# Altium schematic symbol library YL-LPC4350-CORE-V1.0 _Library.SchLib: 156 symbols (part 10 of 10)

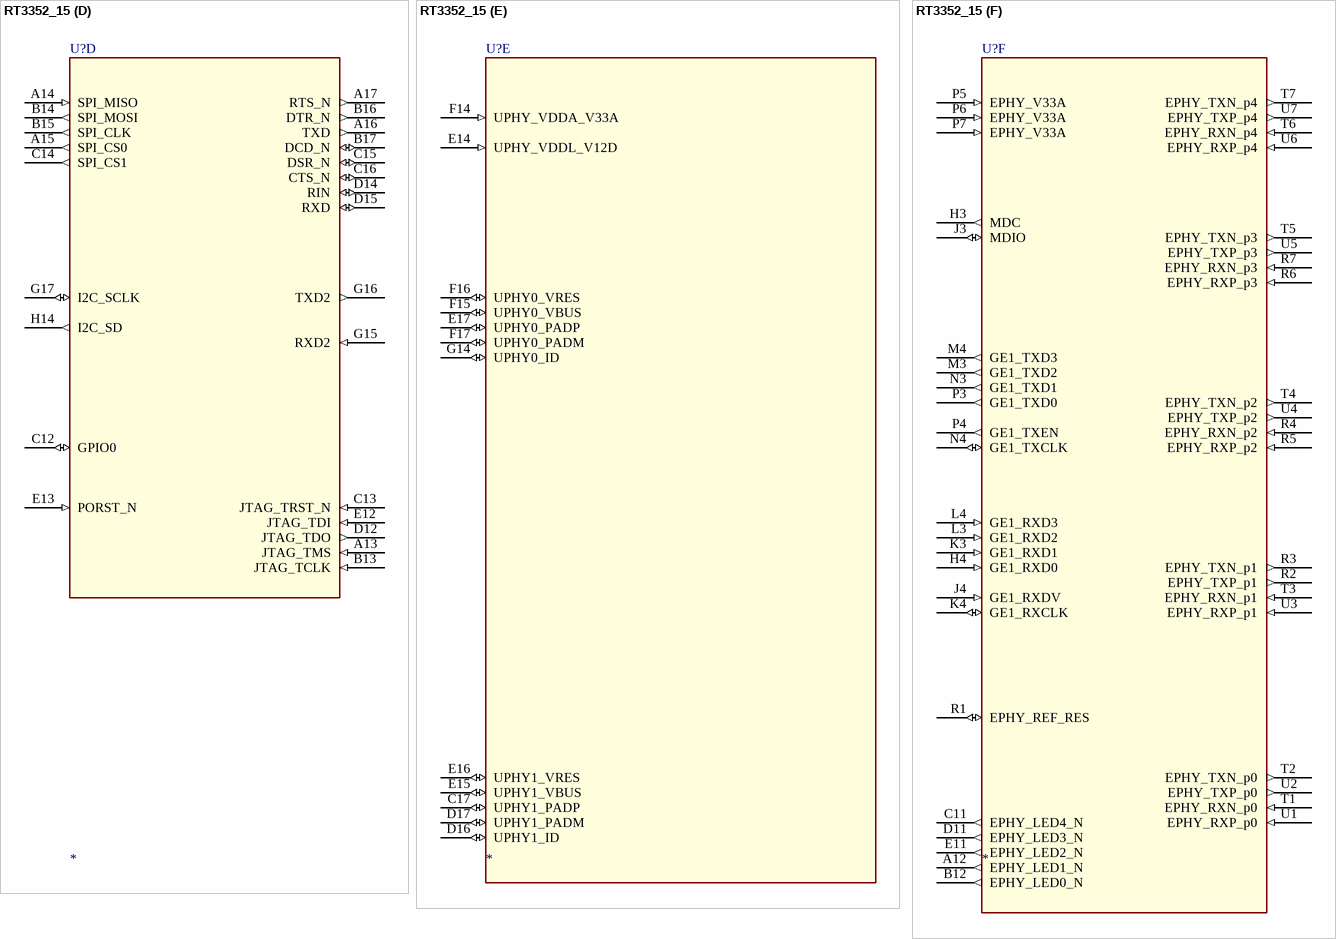
[diagram p140: symbol RT3352_15]

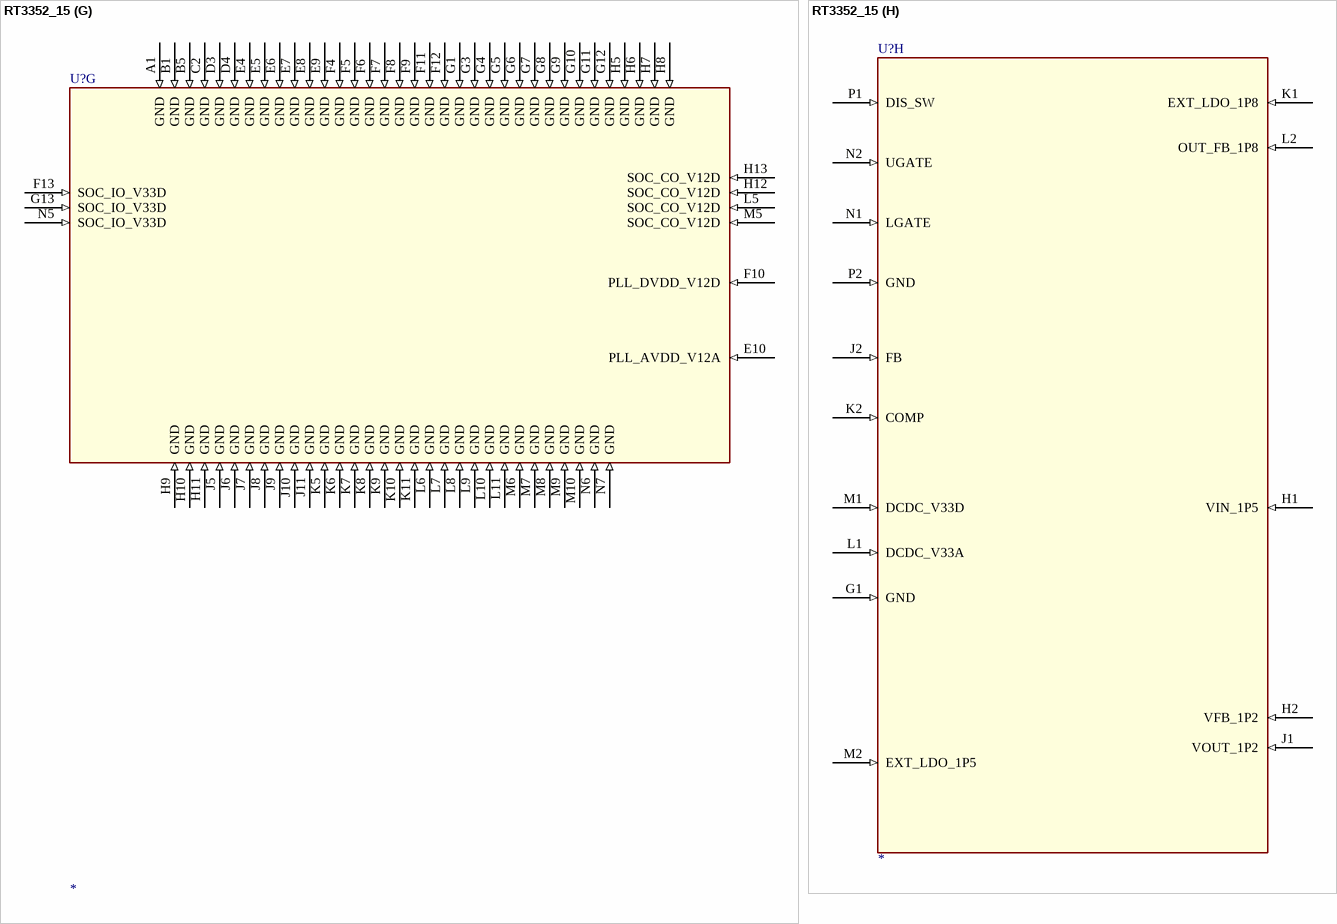
[diagram p141: symbol RT3352_15]

## RT3352_15
designator U?
part A pins: A6 PLL_VC_CAP (in), A7 LDORF_OUT_V12 (out), A8 RF_BB2_V12A (in), A9 ADC_V12 (in), B6 BG_V33A (in), B7 LDORF_IN_VX (in), B8 PLL_X2 (out), B9 PLL_X1 (in), C3 RF0_V12A (in), C4 RF0_IF_V12A (in), C5 VCO_V12A (in), C6 LDOPLL_OUT_V12 (out), C7 BG_RES_12K (in), D5 PLL_V12A (in), D6 RF_BB1_V12A (in), E3 RF1_IF_V12A (in), F3 RF1_V12A (in), G2 RF1_TX_V12A (in)
part B pins: A2 RF0_PA_OUTN (out), A3 RF0_PA_OUTP (out), A4 RF0_2G_INN (in), A5 RF0_2G_INP (in), A10 LNA_PE_G1 (out), A11 ANT_TRNB (out), B2 RF0_PA_V33N (in), B3 RF0_PA_V33P (in), B4 RF0_PA1_V33A (in), B10 LNA_PE_G0 (out), B11 ANT_TRN (out), C1 RF1_2G_INP (in), C8 BASE_TRX_IP (io), C9 BASE_TRX_IN (io), C10 PA_PE_G1 (out), D1 RF1_2G_INN (in), D2 RF1_PA_V33A (in), D7 RF_TSSI_IN (in), D8 BASE_TRX_QP (io), D9 BASE_TRX_QN (io), D10 PA_PE_G0 (out), D13 WLAN_LED_N (out), E1 RF1_PA_OUTP (out), E2 RF1_PA_V33P (in), F1 RF1_PA_OUTN (out), F2 RF1_PA_V33N (in)
part C pins: H15 MD0 (io), H16 MD1 (io), H17 MD2 (io), J12 DDR_IOC_V12D (in), J13 DDR_IOC_V12D (in), J14 MD3 (io), J15 MDQM0 (io), J16 MDQS0 (io), J17 MD6 (io), K12 DDR_IO_V33D (in), K13 DDR_IO_V33D (in), K14 MD8 (io), K15 MD7 (io), K16 MD5 (io), K17 MD4 (io), L12 DDR_IOL_V33D (in), L13 DDR_IOL_V33D (in), L14 MD13 (io), L15 MD10 (io), L16 MD11 (io), L17 MD9 (io), M11 DDR_IO_V33D (in), M12 DDR_IOR_V09D (in), M13 MD15 (io), M14 MD12 (io), M15 MD14 (io), M16 MDQS1 (io), M17 MDQM1 (io), N8 DDR_IO_V33D (in), N9 DDR_IO_V33D (in), N10 DDR_IO_V33D (in), N11 DDR_IO_V33D (in), N12 DDR_IOR_V09D (in), N13 MA0 (io), N14 MA3 (io), N15 MA8 (io), N16 MA10 (io), N17 MA13 (io), P8 MD31 (io), P9 MDQS3 (io), P10 MD22 (io), P11 MDQM2 (io), P12 MD16 (io), P13 MODT (io), P14 MA6 (io), P15 MA4 (io), P16 MA5 (io), P17 MA12 (io), R8 MD30 (io), R9 MD27 (io), R10 MD23 (io), R11 MDQS2 (io), R12 MD17 (io), R13 MCKE (io), R14 MCAS_N (io), R15 MA2 (io), R16 MA7 (io), R17 MA11 (io), T8 MD29 (io), T9 MDQM3 (io), T10 MD24 (io), T11 MD20 (io), T12 MD18 (io), T13 MCK_N (io), T14 MRAS_N (io), T15 MBA0 (io), T16 MA1 (io), T17 MA9 (io), U8 MD28 (io), U9 MD25 (io), U10 MD26 (io), U11 MD21 (io), U12 MD19 (io), U13 MCK_P (io), U14 MWE_N (io), U15 MBA1 (io), U16 MBA2 (io), U17 MCS_N (io)
part D pins: A13 JTAG_TMS (in), A14 SPI_MISO (in), A15 SPI_CS0 (out), A16 TXD (out), A17 RTS_N (out), B13 JTAG_TCLK (in), B14 SPI_MOSI (out), B15 SPI_CLK (out), B16 DTR_N (out), B17 DCD_N (io), C12 GPIO0 (io), C13 JTAG_TRST_N (in), C14 SPI_CS1 (out), C15 DSR_N (io), C16 CTS_N (io), D12 JTAG_TDO (out), D14 RIN (io), D15 RXD (io), E12 JTAG_TDI (in), E13 PORST_N (in), G15 RXD2 (in), G16 TXD2 (out), G17 I2C_SCLK (io), H14 I2C_SD (out)
part E pins: C17 UPHY1_PADP (io), D16 UPHY1_ID (io), D17 UPHY1_PADM (io), E14 UPHY_VDDL_V12D (in), E15 UPHY1_VBUS (io), E16 UPHY1_VRES (io), E17 UPHY0_PADP (io), F14 UPHY_VDDA_V33A (in), F15 UPHY0_VBUS (io), F16 UPHY0_VRES (io), F17 UPHY0_PADM (io), G14 UPHY0_ID (io)
part F pins: A12 EPHY_LED1_N (out), B12 EPHY_LED0_N (out), C11 EPHY_LED4_N (out), D11 EPHY_LED3_N (out), E11 EPHY_LED2_N (out), H3 MDC (out), H4 GE1_RXD0 (in), J3 MDIO (io), J4 GE1_RXDV (in), K3 GE1_RXD1 (in), K4 GE1_RXCLK (io), L3 GE1_RXD2 (in), L4 GE1_RXD3 (in), M3 GE1_TXD2 (out), M4 GE1_TXD3 (out), N3 GE1_TXD1 (out), N4 GE1_TXCLK (io), P3 GE1_TXD0 (out), P4 GE1_TXEN (out), P5 EPHY_V33A (in), P6 EPHY_V33A (in), P7 EPHY_V33A (in), R1 EPHY_REF_RES (io), R2 EPHY_TXP_p1 (out), R3 EPHY_TXN_p1 (out), R4 EPHY_RXN_p2 (in), R5 EPHY_RXP_p2 (in), R6 EPHY_RXP_p3 (in), R7 EPHY_RXN_p3 (in), T1 EPHY_RXN_p0 (in), T2 EPHY_TXN_p0 (out), T3 EPHY_RXN_p1 (in), T4 EPHY_TXN_p2 (out), T5 EPHY_TXN_p3 (out), T6 EPHY_RXN_p4 (in), T7 EPHY_TXN_p4 (out), U1 EPHY_RXP_p0 (in), U2 EPHY_TXP_p0 (out), U3 EPHY_RXP_p1 (in), U4 EPHY_TXP_p2 (out), U5 EPHY_TXP_p3 (out), U6 EPHY_RXP_p4 (in), U7 EPHY_TXP_p4 (out)
part G pins: A1 GND (in), B1 GND (in), B5 GND (in), C2 GND (in), D3 GND (in), D4 GND (in), E4 GND (in), E5 GND (in), E6 GND (in), E7 GND (in), E8 GND (in), E9 GND (in), E10 PLL_AVDD_V12A (in), F4 GND (in), F5 GND (in), F6 GND (in), F7 GND (in), F8 GND (in), F9 GND (in), F10 PLL_DVDD_V12D (in), F11 GND (in), F12 GND (in), F13 SOC_IO_V33D (in), G1 GND (in), G3 GND (in), G4 GND (in), G5 GND (in), G6 GND (in), G7 GND (in), G8 GND (in), G9 GND (in), G10 GND (in), G11 GND (in), G12 GND (in), G13 SOC_IO_V33D (in), H5 GND (in), H6 GND (in), H7 GND (in), H8 GND (in), H9 GND (in), H10 GND (in), H11 GND (in), H12 SOC_CO_V12D (in), H13 SOC_CO_V12D (in), J5 GND (in), J6 GND (in), J7 GND (in), J8 GND (in), J9 GND (in), J10 GND (in), J11 GND (in), K5 GND (in), K6 GND (in), K7 GND (in), K8 GND (in), K9 GND (in), K10 GND (in), K11 GND (in), L5 SOC_CO_V12D (in), L6 GND (in), L7 GND (in), L8 GND (in), L9 GND (in), L10 GND (in), L11 GND (in), M5 SOC_CO_V12D (in), M6 GND (in), M7 GND (in), M8 GND (in), M9 GND (in), M10 GND (in), N5 SOC_IO_V33D (in), N6 GND (in), N7 GND (in)
part H pins: G1 GND (in), H1 VIN_1P5 (in), H2 VFB_1P2 (in), J1 VOUT_1P2 (in), J2 FB (in), K1 EXT_LDO_1P8 (in), K2 COMP (in), L1 DCDC_V33A (in), L2 OUT_FB_1P8 (in), M1 DCDC_V33D (in), M2 EXT_LDO_1P5 (in), N1 LGATE (in), N2 UGATE (in), P1 DIS_SW (in), P2 GND (in)

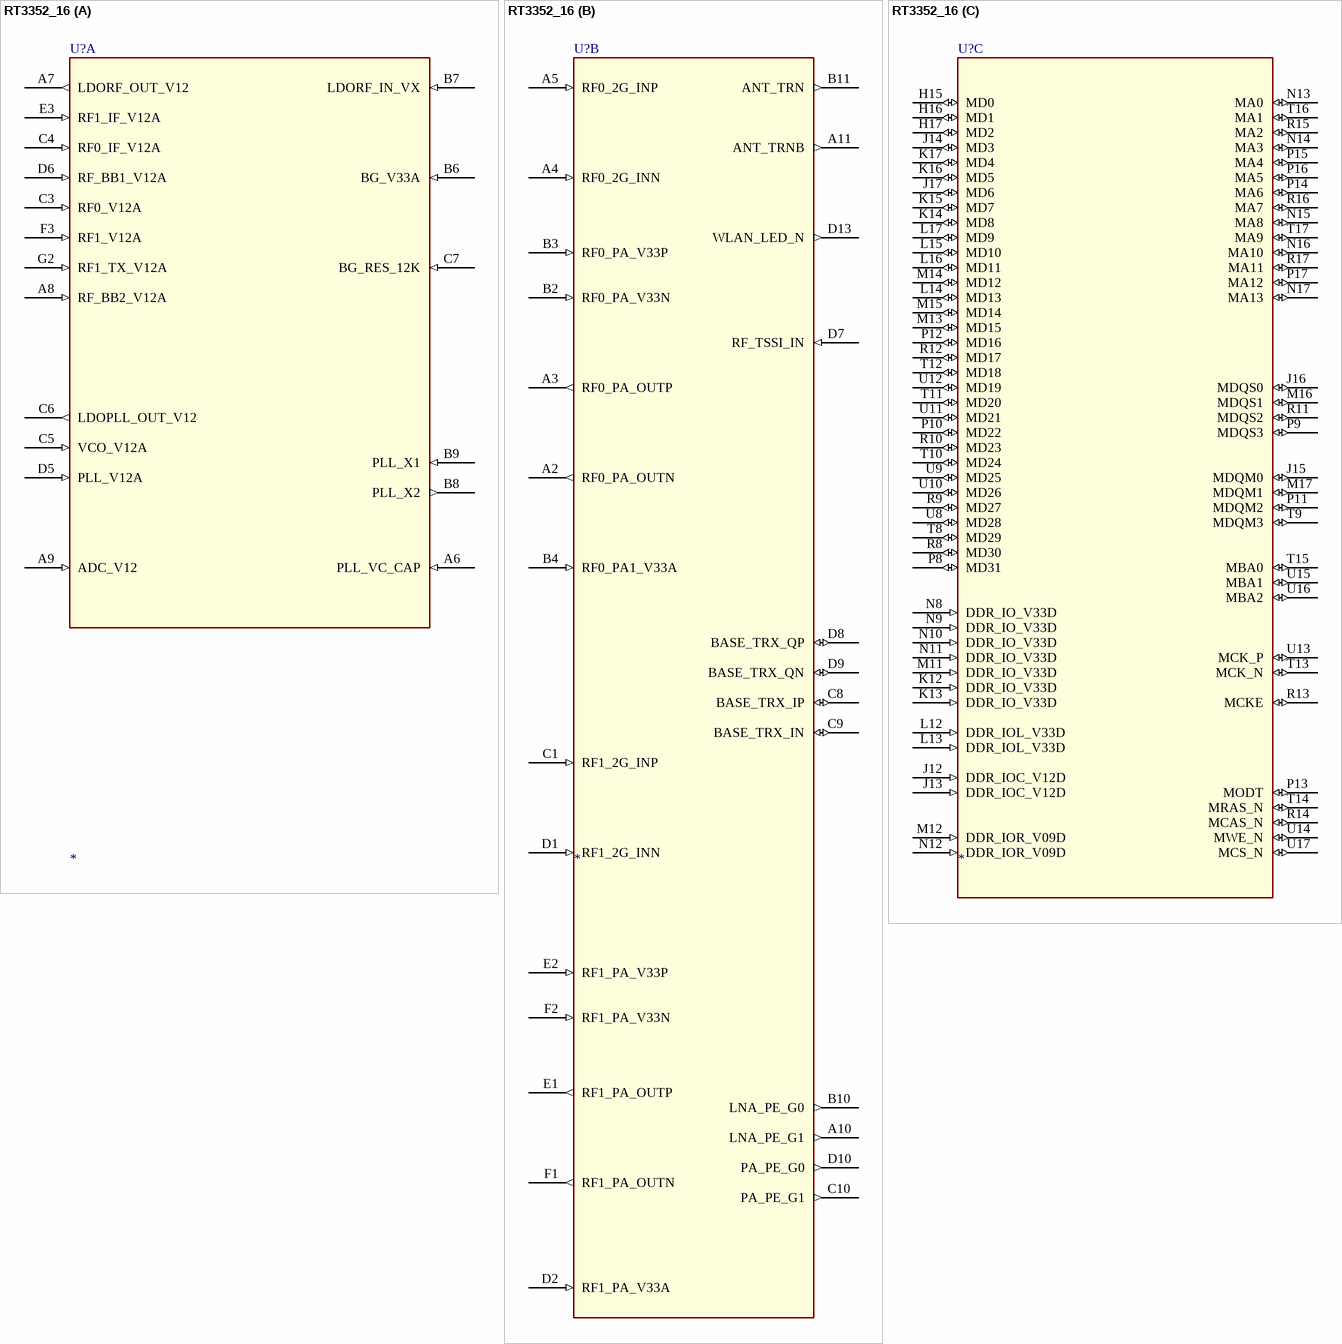
[diagram p142: symbol RT3352_16]

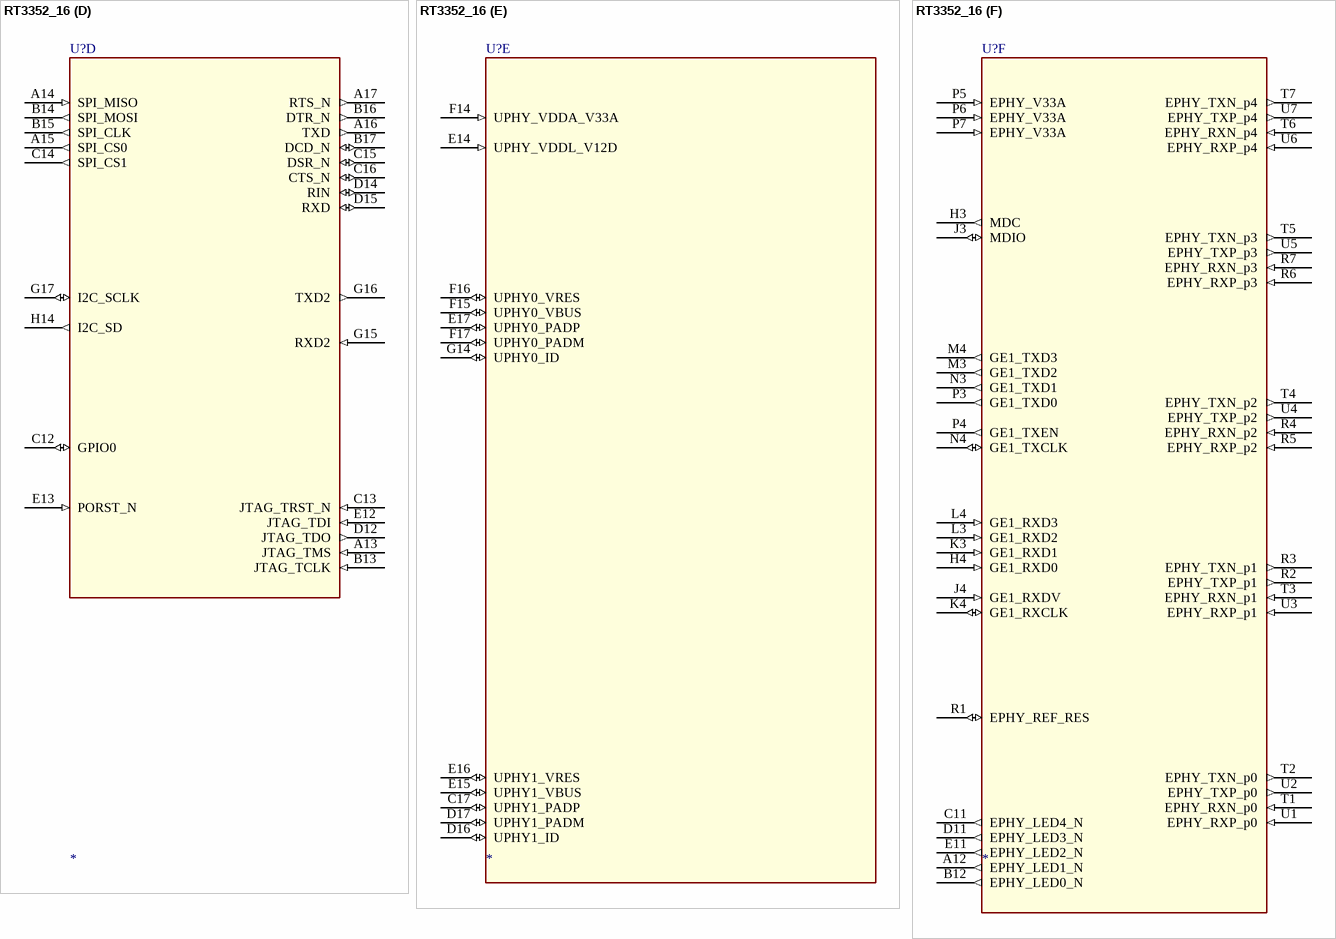
[diagram p143: symbol RT3352_16]

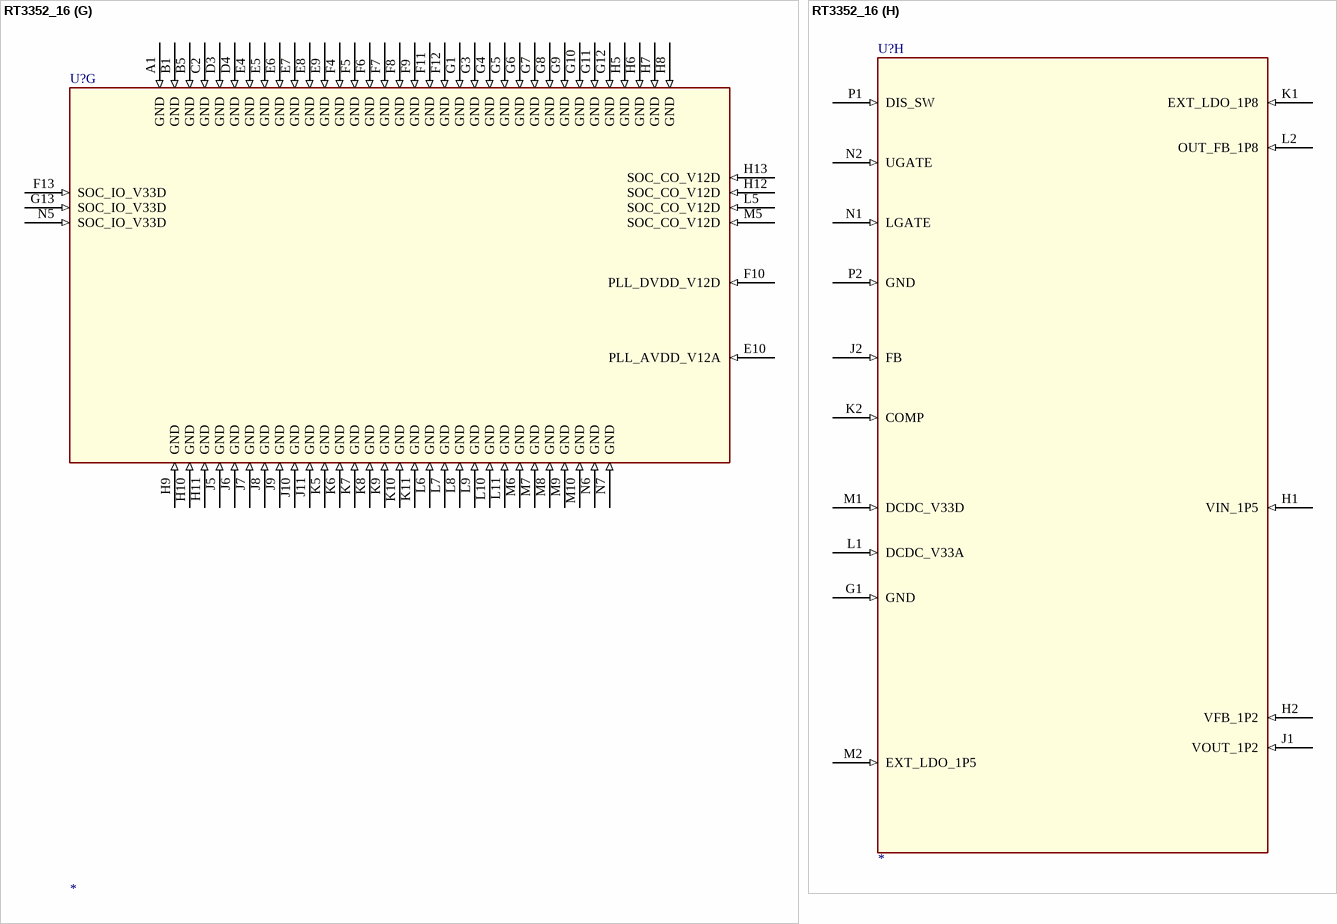
[diagram p144: symbol RT3352_16]

## RT3352_16
designator U?
part A pins: A6 PLL_VC_CAP (in), A7 LDORF_OUT_V12 (out), A8 RF_BB2_V12A (in), A9 ADC_V12 (in), B6 BG_V33A (in), B7 LDORF_IN_VX (in), B8 PLL_X2 (out), B9 PLL_X1 (in), C3 RF0_V12A (in), C4 RF0_IF_V12A (in), C5 VCO_V12A (in), C6 LDOPLL_OUT_V12 (out), C7 BG_RES_12K (in), D5 PLL_V12A (in), D6 RF_BB1_V12A (in), E3 RF1_IF_V12A (in), F3 RF1_V12A (in), G2 RF1_TX_V12A (in)
part B pins: A2 RF0_PA_OUTN (out), A3 RF0_PA_OUTP (out), A4 RF0_2G_INN (in), A5 RF0_2G_INP (in), A10 LNA_PE_G1 (out), A11 ANT_TRNB (out), B2 RF0_PA_V33N (in), B3 RF0_PA_V33P (in), B4 RF0_PA1_V33A (in), B10 LNA_PE_G0 (out), B11 ANT_TRN (out), C1 RF1_2G_INP (in), C8 BASE_TRX_IP (io), C9 BASE_TRX_IN (io), C10 PA_PE_G1 (out), D1 RF1_2G_INN (in), D2 RF1_PA_V33A (in), D7 RF_TSSI_IN (in), D8 BASE_TRX_QP (io), D9 BASE_TRX_QN (io), D10 PA_PE_G0 (out), D13 WLAN_LED_N (out), E1 RF1_PA_OUTP (out), E2 RF1_PA_V33P (in), F1 RF1_PA_OUTN (out), F2 RF1_PA_V33N (in)
part C pins: H15 MD0 (io), H16 MD1 (io), H17 MD2 (io), J12 DDR_IOC_V12D (in), J13 DDR_IOC_V12D (in), J14 MD3 (io), J15 MDQM0 (io), J16 MDQS0 (io), J17 MD6 (io), K12 DDR_IO_V33D (in), K13 DDR_IO_V33D (in), K14 MD8 (io), K15 MD7 (io), K16 MD5 (io), K17 MD4 (io), L12 DDR_IOL_V33D (in), L13 DDR_IOL_V33D (in), L14 MD13 (io), L15 MD10 (io), L16 MD11 (io), L17 MD9 (io), M11 DDR_IO_V33D (in), M12 DDR_IOR_V09D (in), M13 MD15 (io), M14 MD12 (io), M15 MD14 (io), M16 MDQS1 (io), M17 MDQM1 (io), N8 DDR_IO_V33D (in), N9 DDR_IO_V33D (in), N10 DDR_IO_V33D (in), N11 DDR_IO_V33D (in), N12 DDR_IOR_V09D (in), N13 MA0 (io), N14 MA3 (io), N15 MA8 (io), N16 MA10 (io), N17 MA13 (io), P8 MD31 (io), P9 MDQS3 (io), P10 MD22 (io), P11 MDQM2 (io), P12 MD16 (io), P13 MODT (io), P14 MA6 (io), P15 MA4 (io), P16 MA5 (io), P17 MA12 (io), R8 MD30 (io), R9 MD27 (io), R10 MD23 (io), R11 MDQS2 (io), R12 MD17 (io), R13 MCKE (io), R14 MCAS_N (io), R15 MA2 (io), R16 MA7 (io), R17 MA11 (io), T8 MD29 (io), T9 MDQM3 (io), T10 MD24 (io), T11 MD20 (io), T12 MD18 (io), T13 MCK_N (io), T14 MRAS_N (io), T15 MBA0 (io), T16 MA1 (io), T17 MA9 (io), U8 MD28 (io), U9 MD25 (io), U10 MD26 (io), U11 MD21 (io), U12 MD19 (io), U13 MCK_P (io), U14 MWE_N (io), U15 MBA1 (io), U16 MBA2 (io), U17 MCS_N (io)
part D pins: A13 JTAG_TMS (in), A14 SPI_MISO (in), A15 SPI_CS0 (out), A16 TXD (out), A17 RTS_N (out), B13 JTAG_TCLK (in), B14 SPI_MOSI (out), B15 SPI_CLK (out), B16 DTR_N (out), B17 DCD_N (io), C12 GPIO0 (io), C13 JTAG_TRST_N (in), C14 SPI_CS1 (out), C15 DSR_N (io), C16 CTS_N (io), D12 JTAG_TDO (out), D14 RIN (io), D15 RXD (io), E12 JTAG_TDI (in), E13 PORST_N (in), G15 RXD2 (in), G16 TXD2 (out), G17 I2C_SCLK (io), H14 I2C_SD (out)
part E pins: C17 UPHY1_PADP (io), D16 UPHY1_ID (io), D17 UPHY1_PADM (io), E14 UPHY_VDDL_V12D (in), E15 UPHY1_VBUS (io), E16 UPHY1_VRES (io), E17 UPHY0_PADP (io), F14 UPHY_VDDA_V33A (in), F15 UPHY0_VBUS (io), F16 UPHY0_VRES (io), F17 UPHY0_PADM (io), G14 UPHY0_ID (io)
part F pins: A12 EPHY_LED1_N (out), B12 EPHY_LED0_N (out), C11 EPHY_LED4_N (out), D11 EPHY_LED3_N (out), E11 EPHY_LED2_N (out), H3 MDC (out), H4 GE1_RXD0 (in), J3 MDIO (io), J4 GE1_RXDV (in), K3 GE1_RXD1 (in), K4 GE1_RXCLK (io), L3 GE1_RXD2 (in), L4 GE1_RXD3 (in), M3 GE1_TXD2 (out), M4 GE1_TXD3 (out), N3 GE1_TXD1 (out), N4 GE1_TXCLK (io), P3 GE1_TXD0 (out), P4 GE1_TXEN (out), P5 EPHY_V33A (in), P6 EPHY_V33A (in), P7 EPHY_V33A (in), R1 EPHY_REF_RES (io), R2 EPHY_TXP_p1 (out), R3 EPHY_TXN_p1 (out), R4 EPHY_RXN_p2 (in), R5 EPHY_RXP_p2 (in), R6 EPHY_RXP_p3 (in), R7 EPHY_RXN_p3 (in), T1 EPHY_RXN_p0 (in), T2 EPHY_TXN_p0 (out), T3 EPHY_RXN_p1 (in), T4 EPHY_TXN_p2 (out), T5 EPHY_TXN_p3 (out), T6 EPHY_RXN_p4 (in), T7 EPHY_TXN_p4 (out), U1 EPHY_RXP_p0 (in), U2 EPHY_TXP_p0 (out), U3 EPHY_RXP_p1 (in), U4 EPHY_TXP_p2 (out), U5 EPHY_TXP_p3 (out), U6 EPHY_RXP_p4 (in), U7 EPHY_TXP_p4 (out)
part G pins: A1 GND (in), B1 GND (in), B5 GND (in), C2 GND (in), D3 GND (in), D4 GND (in), E4 GND (in), E5 GND (in), E6 GND (in), E7 GND (in), E8 GND (in), E9 GND (in), E10 PLL_AVDD_V12A (in), F4 GND (in), F5 GND (in), F6 GND (in), F7 GND (in), F8 GND (in), F9 GND (in), F10 PLL_DVDD_V12D (in), F11 GND (in), F12 GND (in), F13 SOC_IO_V33D (in), G1 GND (in), G3 GND (in), G4 GND (in), G5 GND (in), G6 GND (in), G7 GND (in), G8 GND (in), G9 GND (in), G10 GND (in), G11 GND (in), G12 GND (in), G13 SOC_IO_V33D (in), H5 GND (in), H6 GND (in), H7 GND (in), H8 GND (in), H9 GND (in), H10 GND (in), H11 GND (in), H12 SOC_CO_V12D (in), H13 SOC_CO_V12D (in), J5 GND (in), J6 GND (in), J7 GND (in), J8 GND (in), J9 GND (in), J10 GND (in), J11 GND (in), K5 GND (in), K6 GND (in), K7 GND (in), K8 GND (in), K9 GND (in), K10 GND (in), K11 GND (in), L5 SOC_CO_V12D (in), L6 GND (in), L7 GND (in), L8 GND (in), L9 GND (in), L10 GND (in), L11 GND (in), M5 SOC_CO_V12D (in), M6 GND (in), M7 GND (in), M8 GND (in), M9 GND (in), M10 GND (in), N5 SOC_IO_V33D (in), N6 GND (in), N7 GND (in)
part H pins: G1 GND (in), H1 VIN_1P5 (in), H2 VFB_1P2 (in), J1 VOUT_1P2 (in), J2 FB (in), K1 EXT_LDO_1P8 (in), K2 COMP (in), L1 DCDC_V33A (in), L2 OUT_FB_1P8 (in), M1 DCDC_V33D (in), M2 EXT_LDO_1P5 (in), N1 LGATE (in), N2 UGATE (in), P1 DIS_SW (in), P2 GND (in)

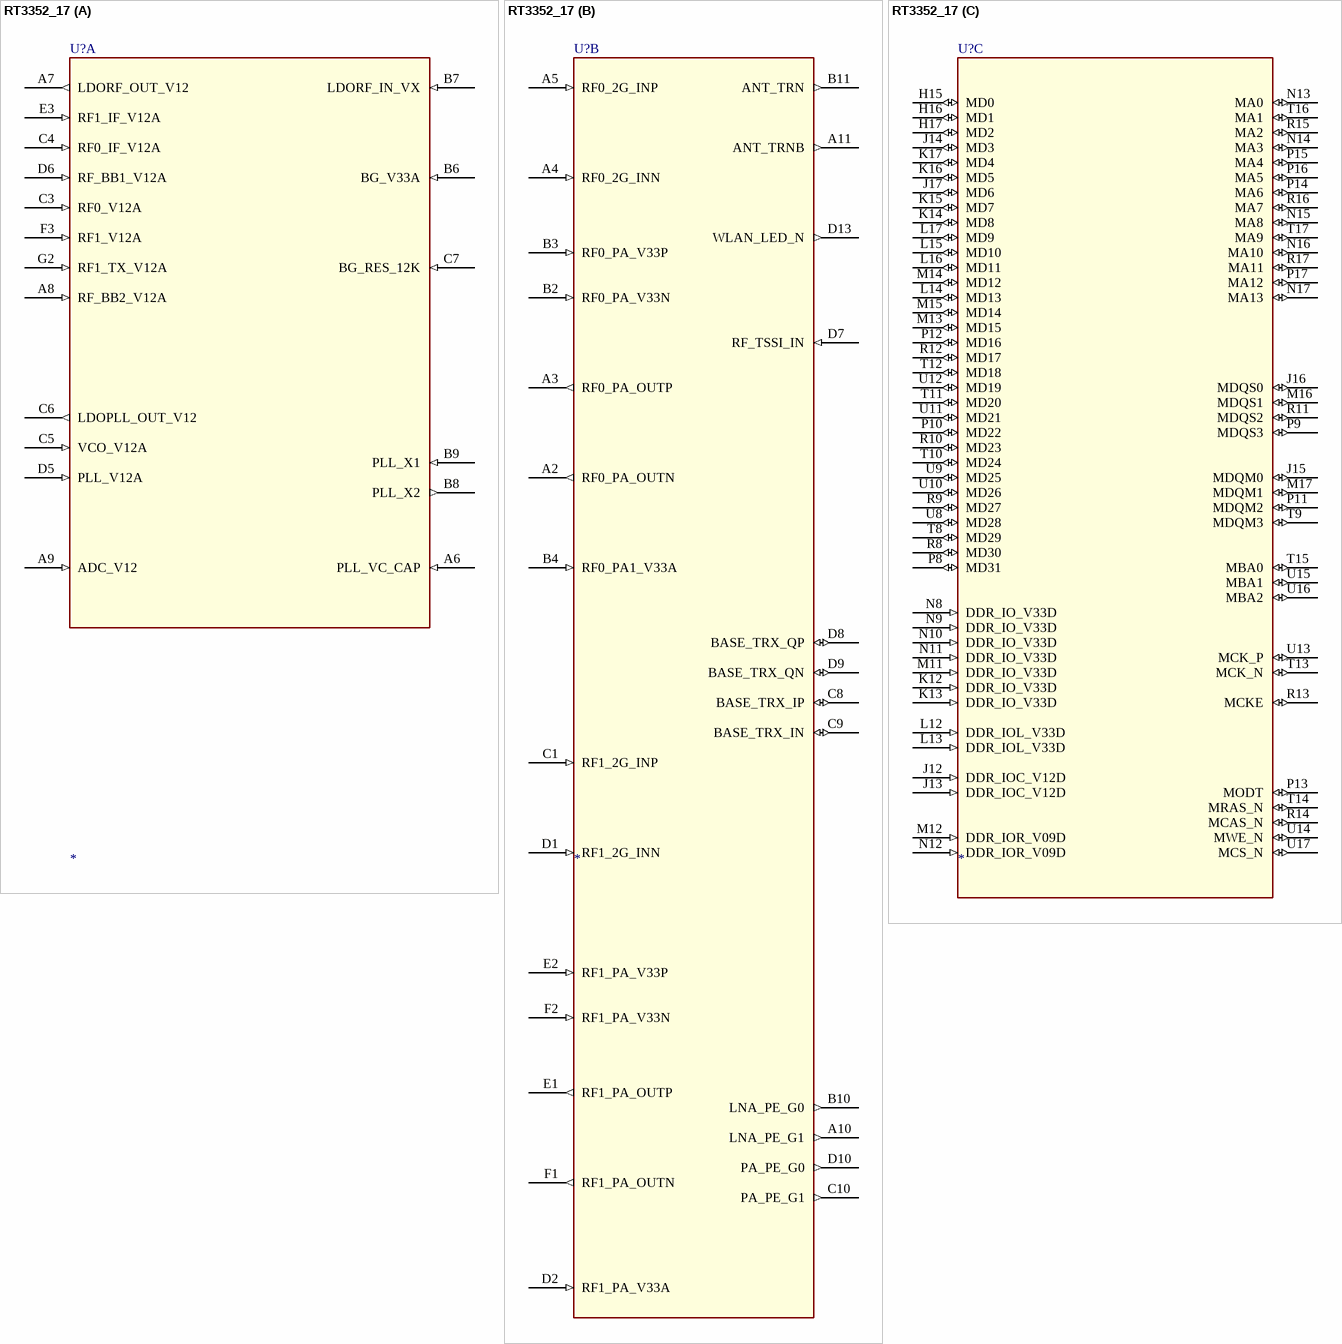
[diagram p145: symbol RT3352_17]

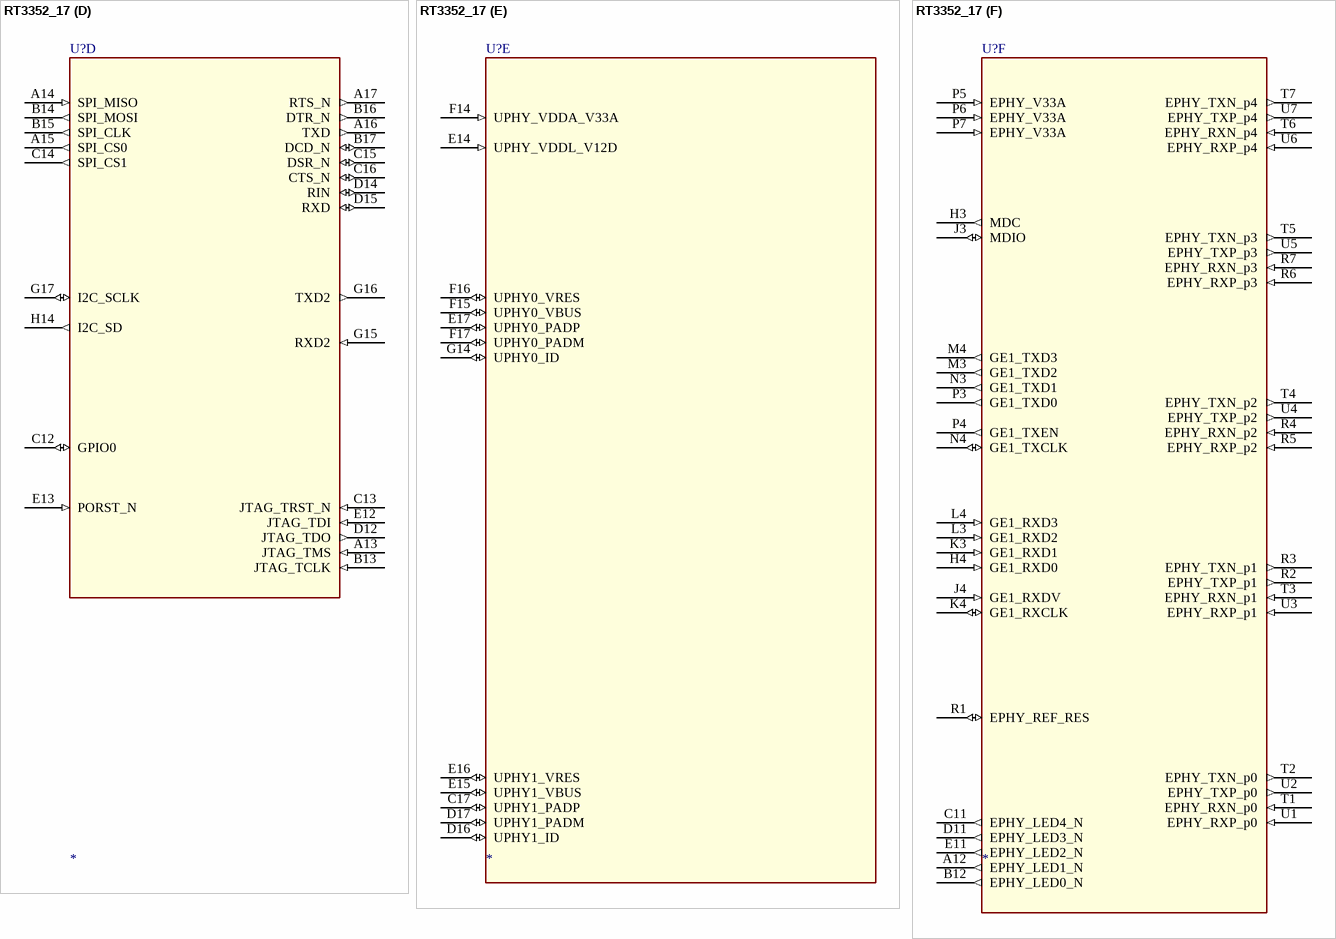
[diagram p146: symbol RT3352_17]

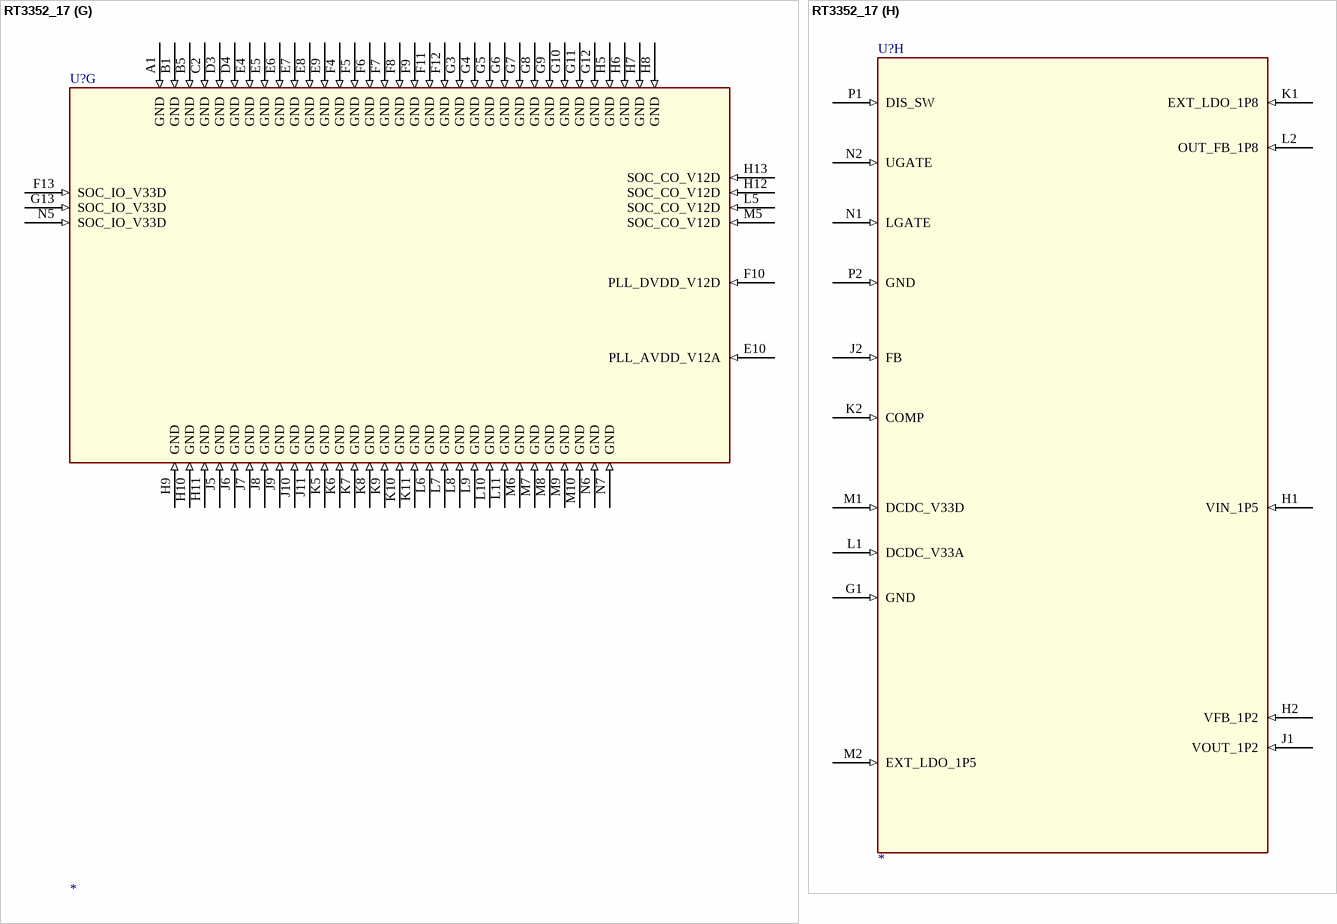
[diagram p147: symbol RT3352_17]

## RT3352_17
designator U?
part A pins: A6 PLL_VC_CAP (in), A7 LDORF_OUT_V12 (out), A8 RF_BB2_V12A (in), A9 ADC_V12 (in), B6 BG_V33A (in), B7 LDORF_IN_VX (in), B8 PLL_X2 (out), B9 PLL_X1 (in), C3 RF0_V12A (in), C4 RF0_IF_V12A (in), C5 VCO_V12A (in), C6 LDOPLL_OUT_V12 (out), C7 BG_RES_12K (in), D5 PLL_V12A (in), D6 RF_BB1_V12A (in), E3 RF1_IF_V12A (in), F3 RF1_V12A (in), G2 RF1_TX_V12A (in)
part B pins: A2 RF0_PA_OUTN (out), A3 RF0_PA_OUTP (out), A4 RF0_2G_INN (in), A5 RF0_2G_INP (in), A10 LNA_PE_G1 (out), A11 ANT_TRNB (out), B2 RF0_PA_V33N (in), B3 RF0_PA_V33P (in), B4 RF0_PA1_V33A (in), B10 LNA_PE_G0 (out), B11 ANT_TRN (out), C1 RF1_2G_INP (in), C8 BASE_TRX_IP (io), C9 BASE_TRX_IN (io), C10 PA_PE_G1 (out), D1 RF1_2G_INN (in), D2 RF1_PA_V33A (in), D7 RF_TSSI_IN (in), D8 BASE_TRX_QP (io), D9 BASE_TRX_QN (io), D10 PA_PE_G0 (out), D13 WLAN_LED_N (out), E1 RF1_PA_OUTP (out), E2 RF1_PA_V33P (in), F1 RF1_PA_OUTN (out), F2 RF1_PA_V33N (in)
part C pins: H15 MD0 (io), H16 MD1 (io), H17 MD2 (io), J12 DDR_IOC_V12D (in), J13 DDR_IOC_V12D (in), J14 MD3 (io), J15 MDQM0 (io), J16 MDQS0 (io), J17 MD6 (io), K12 DDR_IO_V33D (in), K13 DDR_IO_V33D (in), K14 MD8 (io), K15 MD7 (io), K16 MD5 (io), K17 MD4 (io), L12 DDR_IOL_V33D (in), L13 DDR_IOL_V33D (in), L14 MD13 (io), L15 MD10 (io), L16 MD11 (io), L17 MD9 (io), M11 DDR_IO_V33D (in), M12 DDR_IOR_V09D (in), M13 MD15 (io), M14 MD12 (io), M15 MD14 (io), M16 MDQS1 (io), M17 MDQM1 (io), N8 DDR_IO_V33D (in), N9 DDR_IO_V33D (in), N10 DDR_IO_V33D (in), N11 DDR_IO_V33D (in), N12 DDR_IOR_V09D (in), N13 MA0 (io), N14 MA3 (io), N15 MA8 (io), N16 MA10 (io), N17 MA13 (io), P8 MD31 (io), P9 MDQS3 (io), P10 MD22 (io), P11 MDQM2 (io), P12 MD16 (io), P13 MODT (io), P14 MA6 (io), P15 MA4 (io), P16 MA5 (io), P17 MA12 (io), R8 MD30 (io), R9 MD27 (io), R10 MD23 (io), R11 MDQS2 (io), R12 MD17 (io), R13 MCKE (io), R14 MCAS_N (io), R15 MA2 (io), R16 MA7 (io), R17 MA11 (io), T8 MD29 (io), T9 MDQM3 (io), T10 MD24 (io), T11 MD20 (io), T12 MD18 (io), T13 MCK_N (io), T14 MRAS_N (io), T15 MBA0 (io), T16 MA1 (io), T17 MA9 (io), U8 MD28 (io), U9 MD25 (io), U10 MD26 (io), U11 MD21 (io), U12 MD19 (io), U13 MCK_P (io), U14 MWE_N (io), U15 MBA1 (io), U16 MBA2 (io), U17 MCS_N (io)
part D pins: A13 JTAG_TMS (in), A14 SPI_MISO (in), A15 SPI_CS0 (out), A16 TXD (out), A17 RTS_N (out), B13 JTAG_TCLK (in), B14 SPI_MOSI (out), B15 SPI_CLK (out), B16 DTR_N (out), B17 DCD_N (io), C12 GPIO0 (io), C13 JTAG_TRST_N (in), C14 SPI_CS1 (out), C15 DSR_N (io), C16 CTS_N (io), D12 JTAG_TDO (out), D14 RIN (io), D15 RXD (io), E12 JTAG_TDI (in), E13 PORST_N (in), G15 RXD2 (in), G16 TXD2 (out), G17 I2C_SCLK (io), H14 I2C_SD (out)
part E pins: C17 UPHY1_PADP (io), D16 UPHY1_ID (io), D17 UPHY1_PADM (io), E14 UPHY_VDDL_V12D (in), E15 UPHY1_VBUS (io), E16 UPHY1_VRES (io), E17 UPHY0_PADP (io), F14 UPHY_VDDA_V33A (in), F15 UPHY0_VBUS (io), F16 UPHY0_VRES (io), F17 UPHY0_PADM (io), G14 UPHY0_ID (io)
part F pins: A12 EPHY_LED1_N (out), B12 EPHY_LED0_N (out), C11 EPHY_LED4_N (out), D11 EPHY_LED3_N (out), E11 EPHY_LED2_N (out), H3 MDC (out), H4 GE1_RXD0 (in), J3 MDIO (io), J4 GE1_RXDV (in), K3 GE1_RXD1 (in), K4 GE1_RXCLK (io), L3 GE1_RXD2 (in), L4 GE1_RXD3 (in), M3 GE1_TXD2 (out), M4 GE1_TXD3 (out), N3 GE1_TXD1 (out), N4 GE1_TXCLK (io), P3 GE1_TXD0 (out), P4 GE1_TXEN (out), P5 EPHY_V33A (in), P6 EPHY_V33A (in), P7 EPHY_V33A (in), R1 EPHY_REF_RES (io), R2 EPHY_TXP_p1 (out), R3 EPHY_TXN_p1 (out), R4 EPHY_RXN_p2 (in), R5 EPHY_RXP_p2 (in), R6 EPHY_RXP_p3 (in), R7 EPHY_RXN_p3 (in), T1 EPHY_RXN_p0 (in), T2 EPHY_TXN_p0 (out), T3 EPHY_RXN_p1 (in), T4 EPHY_TXN_p2 (out), T5 EPHY_TXN_p3 (out), T6 EPHY_RXN_p4 (in), T7 EPHY_TXN_p4 (out), U1 EPHY_RXP_p0 (in), U2 EPHY_TXP_p0 (out), U3 EPHY_RXP_p1 (in), U4 EPHY_TXP_p2 (out), U5 EPHY_TXP_p3 (out), U6 EPHY_RXP_p4 (in), U7 EPHY_TXP_p4 (out)
part G pins: A1 GND (in), B1 GND (in), B5 GND (in), C2 GND (in), D3 GND (in), D4 GND (in), E4 GND (in), E5 GND (in), E6 GND (in), E7 GND (in), E8 GND (in), E9 GND (in), E10 PLL_AVDD_V12A (in), F4 GND (in), F5 GND (in), F6 GND (in), F7 GND (in), F8 GND (in), F9 GND (in), F10 PLL_DVDD_V12D (in), F11 GND (in), F12 GND (in), F13 SOC_IO_V33D (in), G3 GND (in), G4 GND (in), G5 GND (in), G6 GND (in), G7 GND (in), G8 GND (in), G9 GND (in), G10 GND (in), G11 GND (in), G12 GND (in), G13 SOC_IO_V33D (in), H5 GND (in), H6 GND (in), H7 GND (in), H8 GND (in), H9 GND (in), H10 GND (in), H11 GND (in), H12 SOC_CO_V12D (in), H13 SOC_CO_V12D (in), J5 GND (in), J6 GND (in), J7 GND (in), J8 GND (in), J9 GND (in), J10 GND (in), J11 GND (in), K5 GND (in), K6 GND (in), K7 GND (in), K8 GND (in), K9 GND (in), K10 GND (in), K11 GND (in), L5 SOC_CO_V12D (in), L6 GND (in), L7 GND (in), L8 GND (in), L9 GND (in), L10 GND (in), L11 GND (in), M5 SOC_CO_V12D (in), M6 GND (in), M7 GND (in), M8 GND (in), M9 GND (in), M10 GND (in), N5 SOC_IO_V33D (in), N6 GND (in), N7 GND (in)
part H pins: G1 GND (in), H1 VIN_1P5 (in), H2 VFB_1P2 (in), J1 VOUT_1P2 (in), J2 FB (in), K1 EXT_LDO_1P8 (in), K2 COMP (in), L1 DCDC_V33A (in), L2 OUT_FB_1P8 (in), M1 DCDC_V33D (in), M2 EXT_LDO_1P5 (in), N1 LGATE (in), N2 UGATE (in), P1 DIS_SW (in), P2 GND (in)

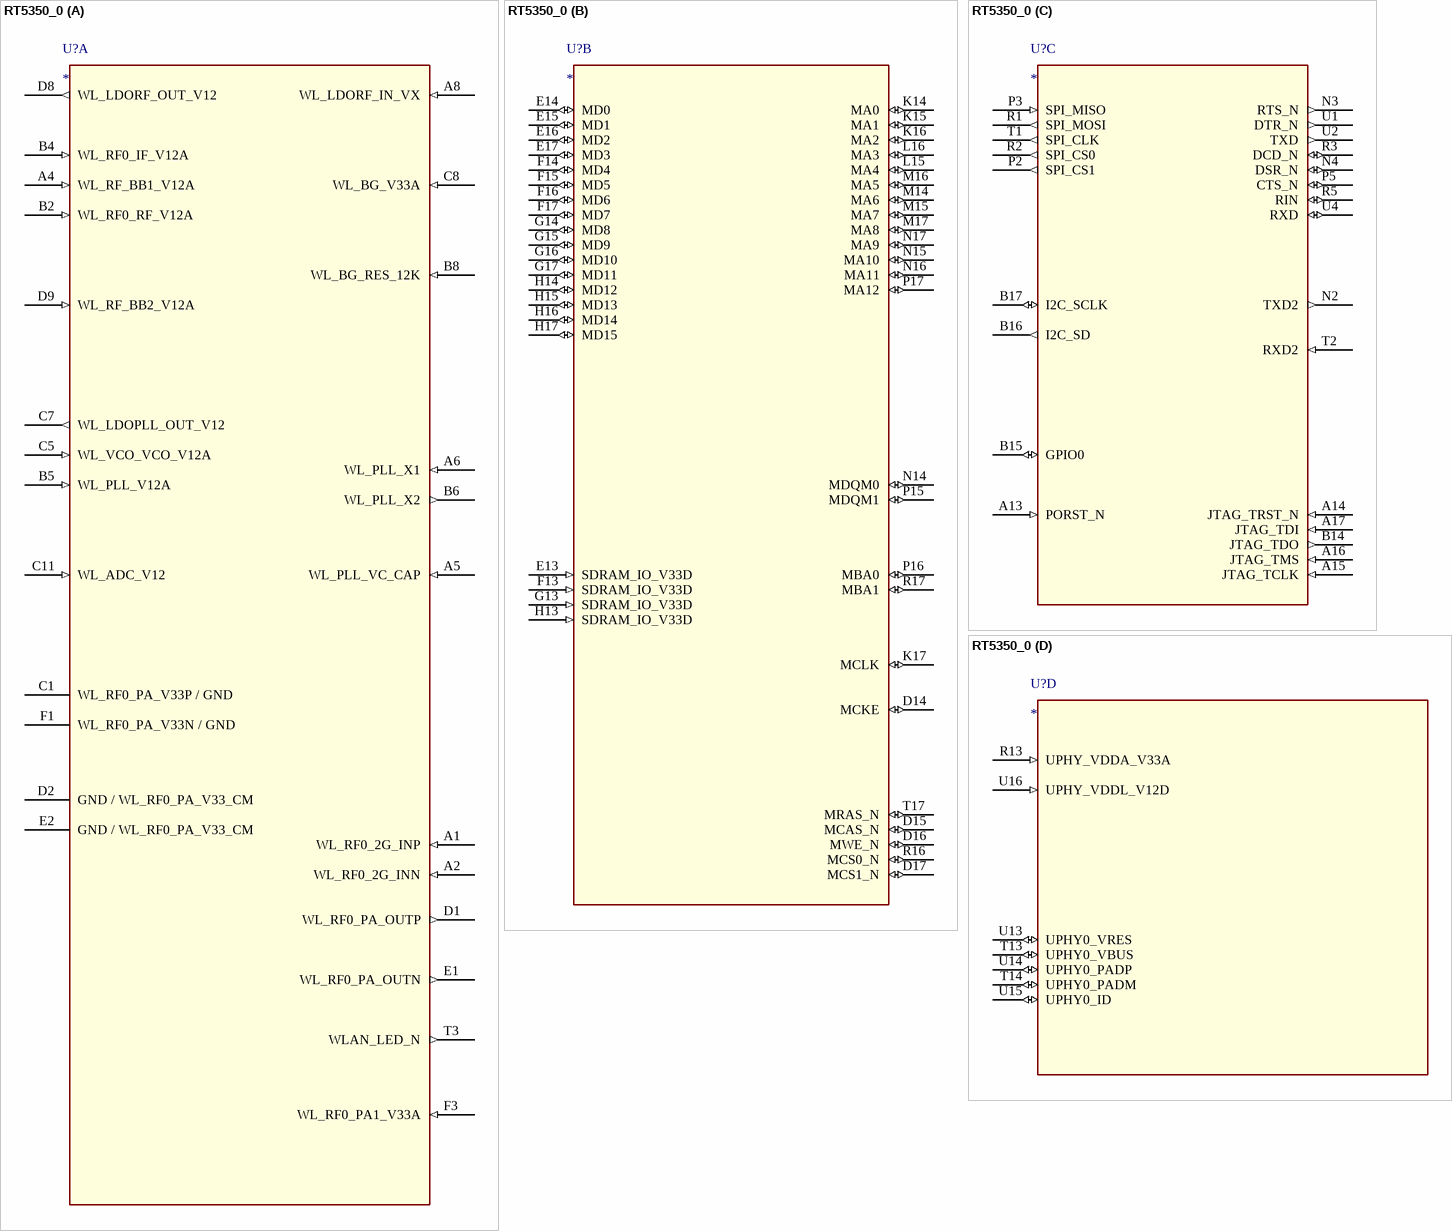
[diagram p148: symbol RT5350_0]

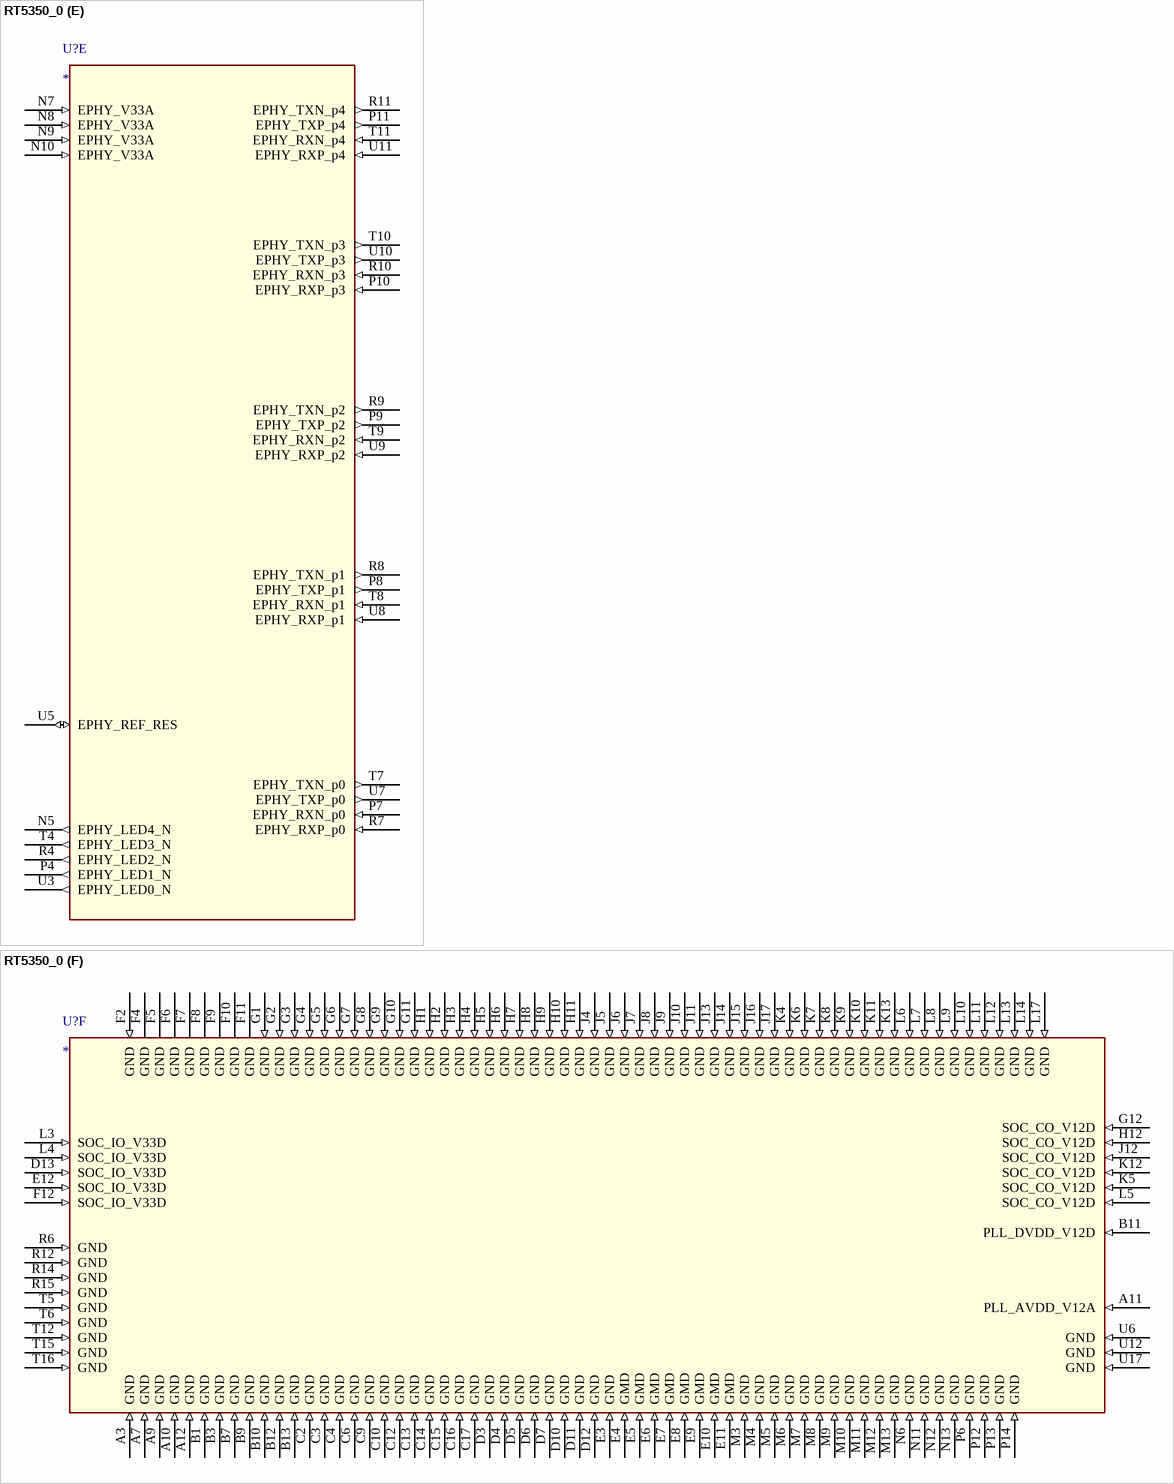
[diagram p149: symbol RT5350_0]

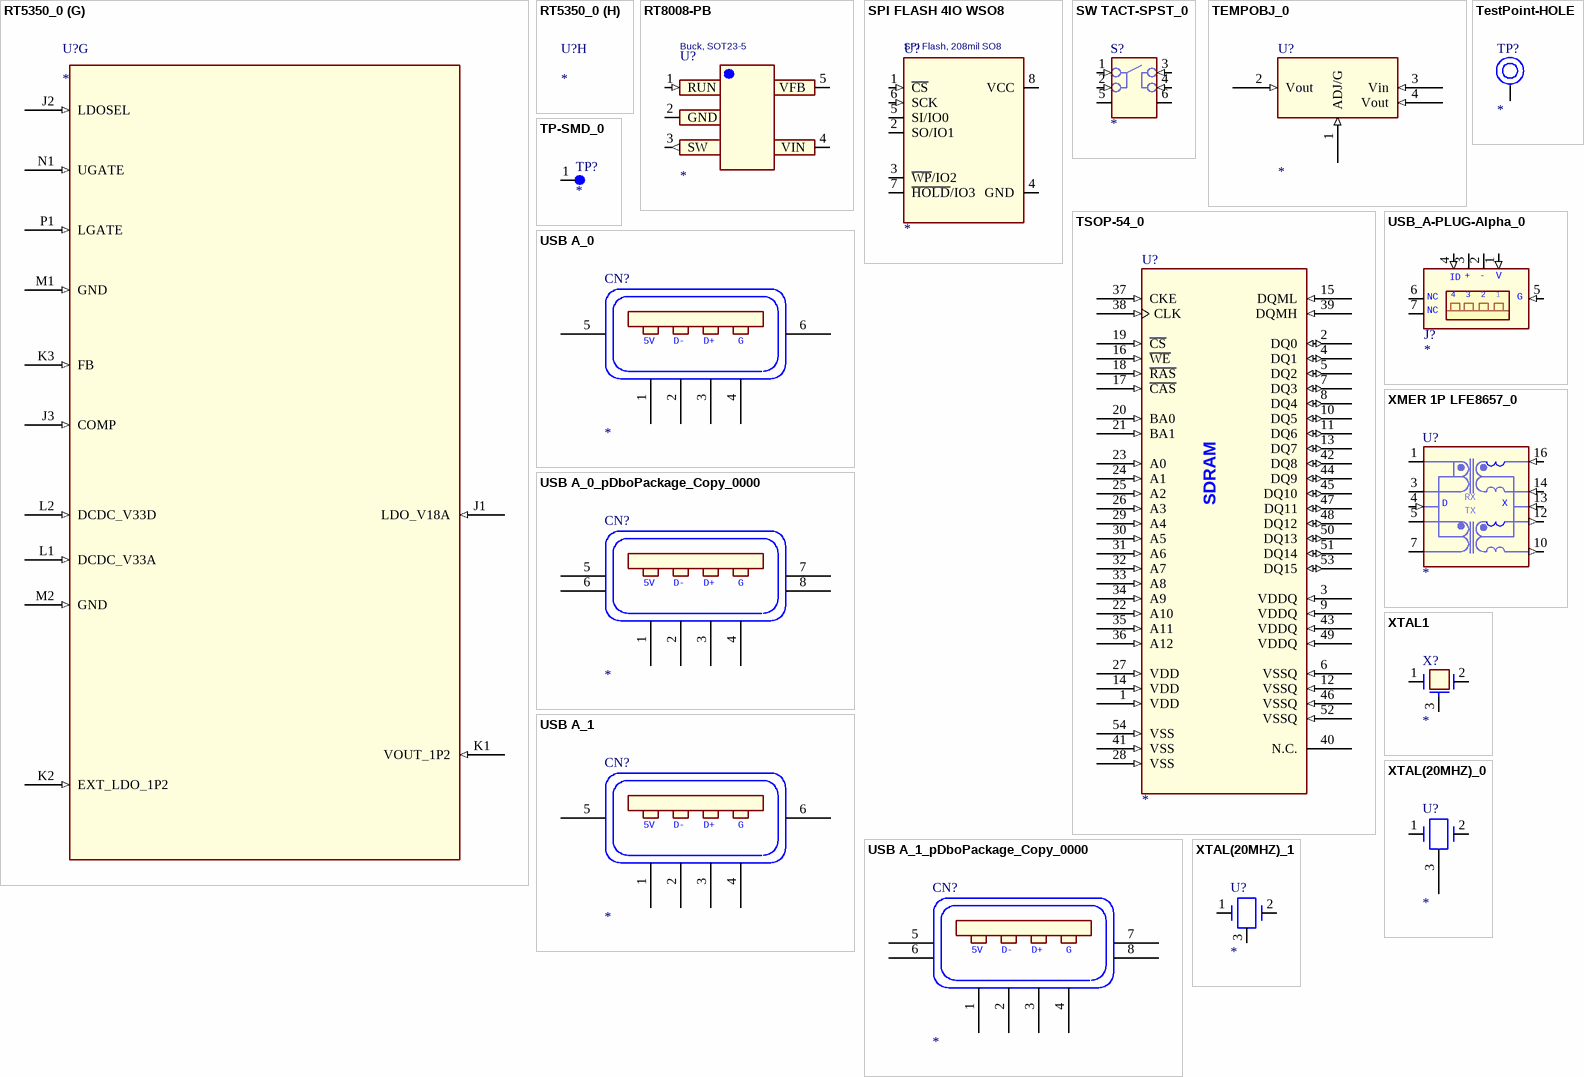
[diagram p150: symbols RT5350_0 to XTAL(20MHZ)_1]

## RT5350_0
designator U?
part A pins: A1 WL_RF0_2G_INP (in), A2 WL_RF0_2G_INN (in), A4 WL_RF_BB1_V12A (in), A5 WL_PLL_VC_CAP (in), A6 WL_PLL_X1 (in), A8 WL_LDORF_IN_VX (in), B2 WL_RF0_RF_V12A (in), B4 WL_RF0_IF_V12A (in), B5 WL_PLL_V12A (in), B6 WL_PLL_X2 (out), B8 WL_BG_RES_12K (in), C1 WL_RF0_PA_V33P / GND, C5 WL_VCO_VCO_V12A (in), C7 WL_LDOPLL_OUT_V12 (out), C8 WL_BG_V33A (in), C11 WL_ADC_V12 (in), D1 WL_RF0_PA_OUTP (out), D2 GND / WL_RF0_PA_V33_CM, D8 WL_LDORF_OUT_V12 (out), D9 WL_RF_BB2_V12A (in), E1 WL_RF0_PA_OUTN (out), E2 GND / WL_RF0_PA_V33_CM, F1 WL_RF0_PA_V33N / GND, F3 WL_RF0_PA1_V33A (in), T3 WLAN_LED_N (out)
part B pins: D14 MCKE (io), D15 MCAS_N (io), D16 MWE_N (io), D17 MCS1_N (io), E13 SDRAM_IO_V33D (in), E14 MD0 (io), E15 MD1 (io), E16 MD2 (io), E17 MD3 (io), F13 SDRAM_IO_V33D (in), F14 MD4 (io), F15 MD5 (io), F16 MD6 (io), F17 MD7 (io), G13 SDRAM_IO_V33D (in), G14 MD8 (io), G15 MD9 (io), G16 MD10 (io), G17 MD11 (io), H13 SDRAM_IO_V33D (in), H14 MD12 (io), H15 MD13 (io), H16 MD14 (io), H17 MD15 (io), K14 MA0 (io), K15 MA1 (io), K16 MA2 (io), K17 MCLK (io), L15 MA4 (io), L16 MA3 (io), M14 MA6 (io), M15 MA7 (io), M16 MA5 (io), M17 MA8 (io), N14 MDQM0 (io), N15 MA10 (io), N16 MA11 (io), N17 MA9 (io), P15 MDQM1 (io), P16 MBA0 (io), P17 MA12 (io), R16 MCS0_N (io), R17 MBA1 (io), T17 MRAS_N (io)
part C pins: A13 PORST_N (in), A14 JTAG_TRST_N (in), A15 JTAG_TCLK (in), A16 JTAG_TMS (in), A17 JTAG_TDI (in), B14 JTAG_TDO (out), B15 GPIO0 (io), B16 I2C_SD (out), B17 I2C_SCLK (io), N2 TXD2 (out), N3 RTS_N (out), N4 DSR_N (io), P2 SPI_CS1 (out), P3 SPI_MISO (in), P5 CTS_N (io), R1 SPI_MOSI (out), R2 SPI_CS0 (out), R3 DCD_N (io), R5 RIN (io), T1 SPI_CLK (out), T2 RXD2 (in), U1 DTR_N (out), U2 TXD (out), U4 RXD (io)
part D pins: R13 UPHY_VDDA_V33A (in), T13 UPHY0_VBUS (io), T14 UPHY0_PADM (io), U13 UPHY0_VRES (io), U14 UPHY0_PADP (io), U15 UPHY0_ID (io), U16 UPHY_VDDL_V12D (in)
part E pins: N5 EPHY_LED4_N (out), N7 EPHY_V33A (in), N8 EPHY_V33A (in), N9 EPHY_V33A (in), N10 EPHY_V33A (in), P4 EPHY_LED1_N (out), P7 EPHY_RXN_p0 (in), P8 EPHY_TXP_p1 (out), P9 EPHY_TXP_p2 (out), P10 EPHY_RXP_p3 (in), P11 EPHY_TXP_p4 (out), R4 EPHY_LED2_N (out), R7 EPHY_RXP_p0 (in), R8 EPHY_TXN_p1 (out), R9 EPHY_TXN_p2 (out), R10 EPHY_RXN_p3 (in), R11 EPHY_TXN_p4 (out), T4 EPHY_LED3_N (out), T7 EPHY_TXN_p0 (out), T8 EPHY_RXN_p1 (in), T9 EPHY_RXN_p2 (in), T10 EPHY_TXN_p3 (out), T11 EPHY_RXN_p4 (in), U3 EPHY_LED0_N (out), U5 EPHY_REF_RES (io), U7 EPHY_TXP_p0 (out), U8 EPHY_RXP_p1 (in), U9 EPHY_RXP_p2 (in), U10 EPHY_TXP_p3 (out), U11 EPHY_RXP_p4 (in)
part F pins: A3 GND (in), A7 GND (in), A9 GND (in), A10 GND (in), A11 PLL_AVDD_V12A (in), A12 GND (in), B1 GND (in), B3 GND (in), B7 GND (in), B9 GND (in), B10 GND (in), B11 PLL_DVDD_V12D (in), B12 GND (in), B13 GND (in), C2 GND (in), C3 GND (in), C4 GND (in), C6 GND (in), C9 GND (in), C10 GND (in), C12 GND (in), C13 GND (in), C14 GND (in), C15 GND (in), C16 GND (in), C17 GND (in), D3 GND (in), D4 GND (in), D5 GND (in), D6 GND (in), D7 GND (in), D10 GND (in), D11 GND (in), D12 GND (in), D13 SOC_IO_V33D (in), E3 GND (in), E4 GMD (in), E5 GMD (in), E6 GMD (in), E7 GMD (in), E8 GMD (in), E9 GMD (in), E10 GMD (in), E11 GMD (in), E12 SOC_IO_V33D (in), F2 GND (in), F4 GND, F5 GND, F6 GND, F7 GND, F8 GND, F9 GND, F10 GND, F11 GND, F12 SOC_IO_V33D (in), G1 GND (in), G2 GND (in), G3 GND (in), G4 GND (in), G5 GND (in), G6 GND (in), G7 GND (in), G8 GND (in), G9 GND (in), G10 GND (in), G11 GND (in), G12 SOC_CO_V12D (in), H1 GND (in), H2 GND (in), H3 GND (in), H4 GND (in), H5 GND (in), H6 GND (in), H7 GND (in), H8 GND (in), H9 GND (in), H10 GND (in), H11 GND (in), H12 SOC_CO_V12D (in), J4 GND (in), J5 GND (in), J6 GND (in), J7 GND (in), J8 GND (in), J9 GND (in), J10 GND (in), J11 GND (in), J12 SOC_CO_V12D (in), J13 GND (in), J14 GND (in), J15 GND (in), J16 GND (in), J17 GND (in), K4 GND (in), K5 SOC_CO_V12D (in), K6 GND (in), K7 GND (in), K8 GND (in), K9 GND (in), K10 GND (in), K11 GND (in), K12 SOC_CO_V12D (in), K13 GND (in), L3 SOC_IO_V33D (in), L4 SOC_IO_V33D (in), L5 SOC_CO_V12D (in), L6 GND (in), L7 GND (in), L8 GND (in), L9 GND (in), L10 GND (in), L11 GND (in), L12 GND (in), L13 GND (in), L14 GND (in), L17 GND (in), M3 GND (in), M4 GND (in), M5 GND (in), M6 GND (in), M7 GND (in), M8 GND (in), M9 GND (in), M10 GND (in), M11 GND (in), M12 GND (in), M13 GND (in), N6 GND (in), N11 GND (in), N12 GND (in), N13 GND (in), P6 GND (in), P12 GND (in), P13 GND (in), P14 GND (in), R6 GND (in), R12 GND (in), R14 GND (in), R15 GND (in), T5 GND (in), T6 GND (in), T12 GND (in), T15 GND (in), T16 GND (in), U6 GND (in), U12 GND (in), U17 GND (in)
part G pins: J1 LDO_V18A (in), J2 LDOSEL (in), J3 COMP (in), K1 VOUT_1P2 (in), K2 EXT_LDO_1P2 (in), K3 FB (in), L1 DCDC_V33A (in), L2 DCDC_V33D (in), M1 GND (in), M2 GND (in), N1 UGATE (in), P1 LGATE (in)

## RT8008-PB
designator U?  Note: Buck, SOT23-5
pins: 1 RUN (in), 2 GND, 3 SW (out), 4 VIN, 5 VFB

## SPI FLASH 4IO WSO8
designator U?  Note: SPI Flash, 208mil SO8
pins: 1 ~{CS} (in), 2 SO/IO1, 3 ~{WP}/IO2, 4 GND, 5 SI/IO0, 6 SCK (in), 7 ~{HOLD}/IO3, 8 VCC

## SW TACT-SPST_0
designator S?
footprint SW6P
pins: 1 (in), 2 (in), 3 (in), 4 (in), 5 -, 6 +

## TEMPOBJ_0
designator U?
footprint SOT-223
pins: 1 ADJ/G (in), 2 Vout (in), 3 Vin (in), 4 Vout (in)

## TestPoint-HOLE
designator TP?
footprint XP-TP-H0.8MM
pins: 1

## TP-SMD_0
designator TP?
footprint TP-SMD
pins: 1 (io)

## TSOP-54_0
designator U?
pins: 1 VDD (in), 2 DQ0 (io), 3 VDDQ (in), 4 DQ1 (io), 5 DQ2 (io), 6 VSSQ (in), 7 DQ3 (io), 8 DQ4 (io), 9 VDDQ (in), 10 DQ5 (io), 11 DQ6 (io), 12 VSSQ (in), 13 DQ7 (io), 14 VDD (in), 15 DQML (in), 16 ~{WE} (in), 17 ~{CAS} (in), 18 ~{RAS} (in), 19 ~{CS} (in), 20 BA0 (in), 21 BA1 (in), 22 A10 (in), 23 A0 (in), 24 A1 (in), 25 A2 (in), 26 A3 (in), 27 VDD (in), 28 VSS (in), 29 A4 (in), 30 A5 (in), 31 A6 (in), 32 A7 (in), 33 A8 (in), 34 A9 (in), 35 A11 (in), 36 A12 (in), 37 CKE (in), 38 CLK (in), 39 DQMH (in), 40 N.C., 41 VSS (in), 42 DQ8 (io), 43 VDDQ (in), 44 DQ9 (io), 45 DQ10 (io), 46 VSSQ (in), 47 DQ11 (io), 48 DQ12 (io), 49 VDDQ (in), 50 DQ13 (io), 51 DQ14 (io), 52 VSSQ (in), 53 DQ15 (io), 54 VSS (in)
text: SDRAM

## USB A_0
designator CN?
pins: 1, 2, 3, 4, 5, 6
text: 5V; D-; D+; G

## USB A_0_pDboPackage_Copy_0000
designator CN?
pins: 1, 2, 3, 4, 5, 6, 7, 8
text: 5V; D-; D+; G

## USB A_1
designator CN?
pins: 1, 2, 3, 4, 5, 6
text: 5V; D-; D+; G

## USB A_1_pDboPackage_Copy_0000
designator CN?
pins: 1, 2, 3, 4, 5, 6, 7, 8
text: 5V; D-; D+; G

## USB_A-PLUG-Alpha_0
designator J?
Schematics' Source Library: C:\MSim_8\UserLib\vnet2.slb
footprint USB-A-PLUG-Alpha
pins: 1 V+ (in), 2 D- (hiz), 3 D+ (hiz), 4 G (in), 5 G (in), 6 NC, 7 NC
text: ID; +; -; V

## XMER 1P LFE8657_0
designator U?
footprint DIP-16PIN-2010
pins: 1 RD+ (io), 3 RD- (io), 4 CT (in), 5 TD+ (io), 7 TD- (io), 10 TX- (out), 12 TX+ (out), 13 CG (in), 14 RX- (in), 16 RX+ (in)
text: D; RX; X; TX

## XTAL1
designator X?
pins: 1, 2, 3 GND

## XTAL(20MHZ)_0
designator U?
Parent: 24-020060-40; Parnt_desc: XTAL 20MHz 30ppm HC-49/U
footprint DIP
pins: 1, 2, 3

## XTAL(20MHZ)_1
designator U?
Parent: 24-020060-40; Parnt_desc: XTAL 20MHz 30ppm HC-49/U
footprint DIP
pins: 1, 2, 3